# Altium schematic symbol library 3296W-1-250.SchLib: 1 symbol
Pins are listed as number, name and electrical type; pins without a type are passive.

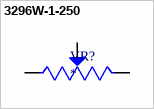
[diagram p0: symbol 3296W-1-250]

## 3296W-1-250
designator VR?
Res Cermet Trimmer 500K Ohm 10% 0.5W 25(Elec)Turn 2.19mm (9.53 X 4.83 X 11.55mm) Pin Thru-Hole Tube; MP: 3296W-1-250; MF: {'manufacturer': u'Bourns'}; Value: *; Package: None; Price: None; Availability: Unavailable
footprint TRIM_3296W-1-250
pins: 1 CCW, 2 WIPER, 3 CW